# EAGLE library part USB-C (library FiftyOneFunParts)
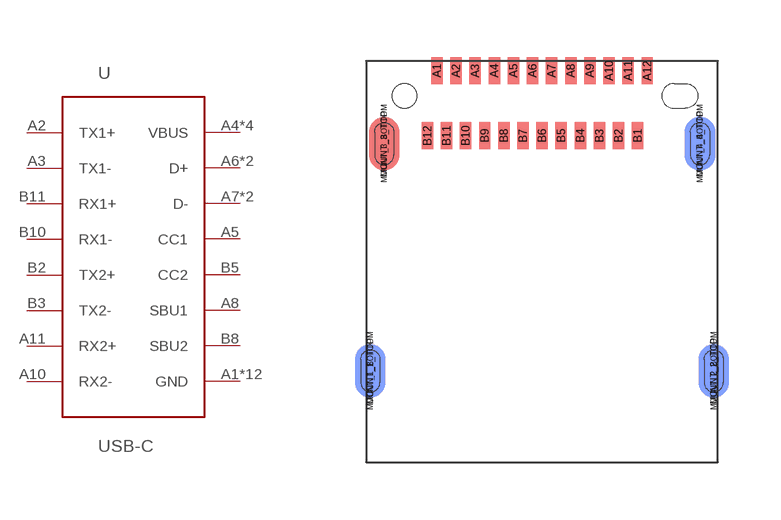
[diagram p0: symbol with the pads of 12401598E4#2A; footprint 12401598E4#2A]

Designator prefix -

## USB-C  [12401598E4#2A]
A1  GND
A2  TX1+
A3  TX1-
A4  VBUS
A5  CC1
A6  D+
A7  D-
A8  SBU1
A9  VBUS
A10  RX2-
A11  RX2+
A12  GND
B1  GND
B2  TX2+
B3  TX2-
B4  VBUS
B5  CC2
B6  D+
B7  D-
B8  SBU2
B9  VBUS
B10  RX1-
B11  RX1+
B12  GND
MOUNT_1_BOTTOM  GND
MOUNT_1_TOP  GND
MOUNT_2_BOTTOM  GND
MOUNT_2_TOP  GND
MOUNT_3_BOTTOM  GND
MOUNT_3_TOP  GND
MOUNT_4_BOTTOM  GND
MOUNT_4_TOP  GND

## Footprint 12401598E4#2A (pad centres in mm)
smd 0.3 x 0.7: A1 -2.75,5; A2 -2.25,5; A3 -1.75,5; A4 -1.25,5; A5 -0.75,5; A6 -0.25,5; A7 0.25,5; A8 0.75,5; A9 1.25,5; A10 1.75,5; A11 2.25,5; A12 2.75,5; B1 2.5,3.3; B2 2,3.3; B3 1.5,3.3; B4 1,3.3; B5 0.5,3.3; B6 0,3.3; B7 -0.5,3.3; B8 -1,3.3; B9 -1.5,3.3; B10 -2,3.3; B11 -2.5,3.3; B12 -3,3.3
smd 0.8 x 1.4 bottom: MOUNT_1_BOTTOM -4.49,-2.86; MOUNT_2_BOTTOM 4.49,-2.86; MOUNT_3_BOTTOM -4.13,3.09; MOUNT_4_BOTTOM 4.13,3.09
smd 0.8 x 1.4: MOUNT_1_TOP -4.49,-2.86; MOUNT_2_TOP 4.49,-2.86; MOUNT_3_TOP -4.13,3.09; MOUNT_4_TOP 4.13,3.09